# Altium footprint library FILTER.PcbLib: 3 footprints
Each footprint in its own frame and in the unit in brackets; x right, y up, seen from the top. Pads: shape width x height; smd on the part's side, far side on the other; paste and mask are expansions set on the pad; w line width, h text height; cw(c..) or ccw(c..) is an arc to the next point about the centre after c.
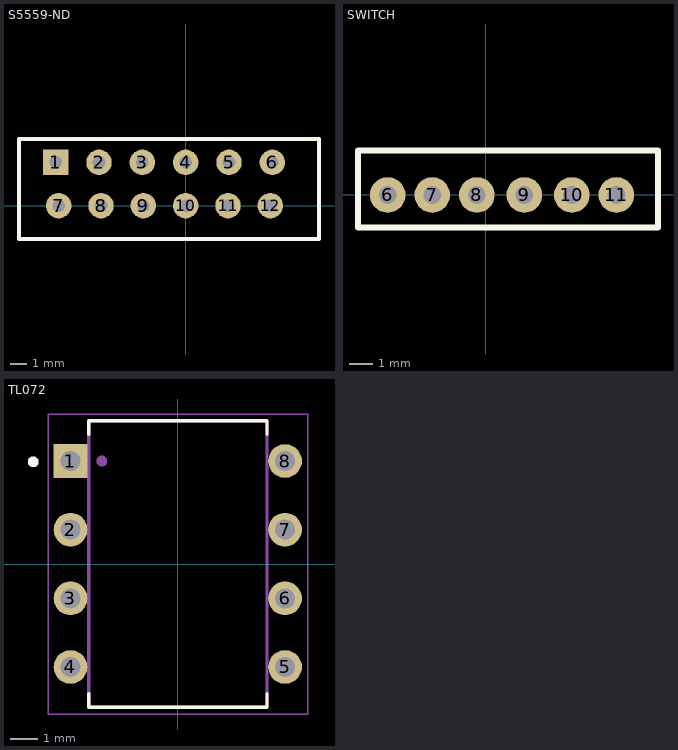
[diagram p0: the footprints below, top view; thin cyan lines are the x and y axes]

## S5559-ND [mil]
pads (12):
  rect 60x60 hole 30: 1(-307.09,102.36)
  round 60 hole 30: 2(-204.72,102.36) 3(-102.36,102.36) 4(0,102.36) 5(102.36,102.36) 6(204.72,102.36) 7(-300,0) 8(-200,0) 9(-100,0) 10(0,0) 11(100,0) 12(200,0)
Top Overlay:
  lines w10: -393.7,-78.74 314.96,-78.74 314.96,157.48 -393.7,157.48 -393.7,-78.74

## SWITCH [mil]
pads (6):
  round 60 hole 30: 6(-165,0) 7(-90,0) 8(-15,0) 9(65,0) 10(145,0) 11(220,0)
Top Overlay:
  lines w10: -215,-55 -215,75 290,75 290,-55 -215,-55

## TL072 [mm]
pads (8):
  rect 1.248x1.248 hole 0.74: 1(-3.97,3.81)
  round 1.248 hole 0.74: 2(-3.97,1.27) 3(-3.97,-1.27) 4(-3.97,-3.81) 5(3.97,-3.81) 6(3.97,-1.27) 7(3.97,1.27) 8(3.97,3.81)
Top Overlay:
  circle w0.2: c-5.35,3.78 r0.1
  lines w0.127: -3.3,-4.8 -3.3,-5.3 3.3,-5.3 3.3,-4.8 ; -3.3,4.8 -3.3,5.3 3.3,5.3 3.3,4.8
Mechanical 1:
  circle w0.2: c-2.81,3.81 r0.1
  lines w0.127: -3.3,-5.3 -3.3,5.3 3.3,5.3 3.3,-5.3 -3.3,-5.3
Mechanical 4:
  lines w0.05: -4.8,-5.55 -4.8,5.55 4.8,5.55 4.8,-5.55 -4.8,-5.55